# Altium footprint library BGS12WN6E6327XTSA1.PcbLib: 1 footprints
Each footprint in its own frame and in the unit in brackets; x right, y up, seen from the top. Pads: shape width x height; smd on the part's side, far side on the other; paste and mask are expansions set on the pad; w line width, h text height; cw(c..) or ccw(c..) is an arc to the next point about the centre after c.
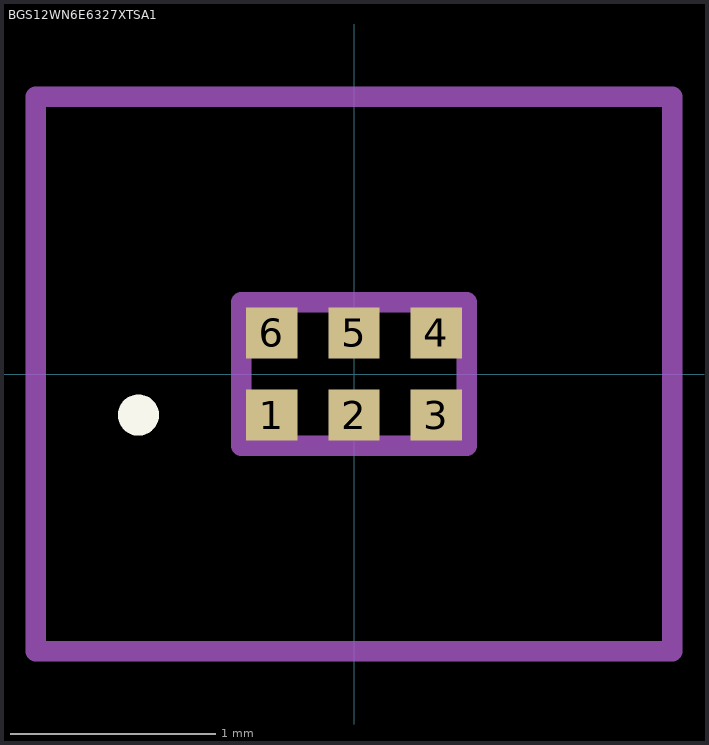
[diagram p0: the footprint, top view; thin cyan lines are the x and y axes]

## BGS12WN6E6327XTSA1 [mm]
pads (6):
  rect 0.25x0.25 smd: 1(-0.4,-0.2) 2(0,-0.2) 3(0.4,-0.2) 4(0.4,0.2) 5(0,0.2) 6(-0.4,0.2)
Top Overlay:
  lines w0.1: -1.1,-0.2 cw(c-1.05,-0.2) -1,-0.2 ; -1.1,-0.2 -1.1,-0.2 ; -1.1,-0.2 ccw(c-1.05,-0.2) -1,-0.2 ; -1,-0.2 -1,-0.2
Mechanical 15:
  lines w0.1: -0.55,-0.35 0.55,-0.35 0.55,0.35 -0.55,0.35 -0.55,-0.35
Mechanical 20:
  lines w0.1: -1.55,-1.35 1.55,-1.35 1.55,1.35 -1.55,1.35 -1.55,-1.35